# Altium footprint library CV2018D.PcbLib: 17 footprints (part 2 of 2)
Each footprint in its own frame and in the unit in brackets; x right, y up, seen from the top. Pads: shape width x height; smd on the part's side, far side on the other; paste and mask are expansions set on the pad; w line width, h text height; cw(c..) or ccw(c..) is an arc to the next point about the centre after c.
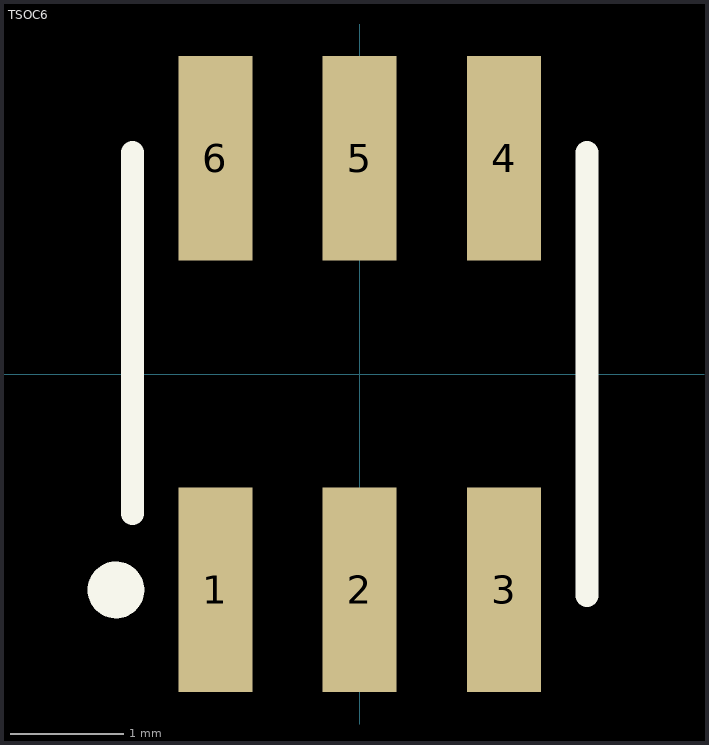
[diagram p1: the footprint, top view; thin cyan lines are the x and y axes]

## TSOC6 [mm]
pads (6):
  rect 0.65x1.8 smd: 1(-1.27,-1.9) 2(0,-1.9) 3(1.27,-1.9) 4(1.27,1.9) 5(0,1.9) 6(-1.27,1.9)
Top Overlay:
  circle w0.25: c-2.145,-1.9 r0.125
  lines w0.2: -2,-1.23 -2,1.95 ; 2,-1.95 2,1.95